# EAGLE library part LPS22HH (library Bulkhead Flight Computer)
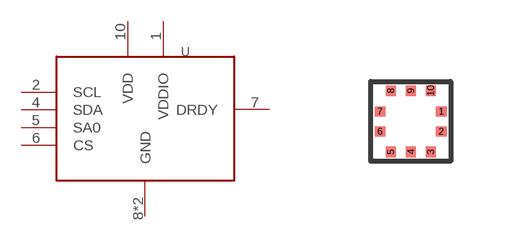
[diagram p2: symbol with the pads of LPS22HH; footprint LPS22HH]

Designator prefix U

## LPS22HH  [LPS22HH]
1  VDDIO  pwr
2  SCL
4  SDA
5  SA0
6  CS
7  DRDY  out
8  GND  pas
9  GND  pas
10  VDD  pwr

## Footprint LPS22HH (pad centres in mm)
smd 0.27 x 0.25: 1 0.765,0.25; 2 0.765,-0.25; 6 -0.765,-0.25; 7 -0.765,0.25
smd 0.25 x 0.27: 3 0.5,-0.765; 4 0,-0.765; 5 -0.5,-0.765; 8 -0.5,0.765; 9 0,0.765; 10 0.5,0.765